# EAGLE library part ARDUINO_MICRO (library Marvelous)
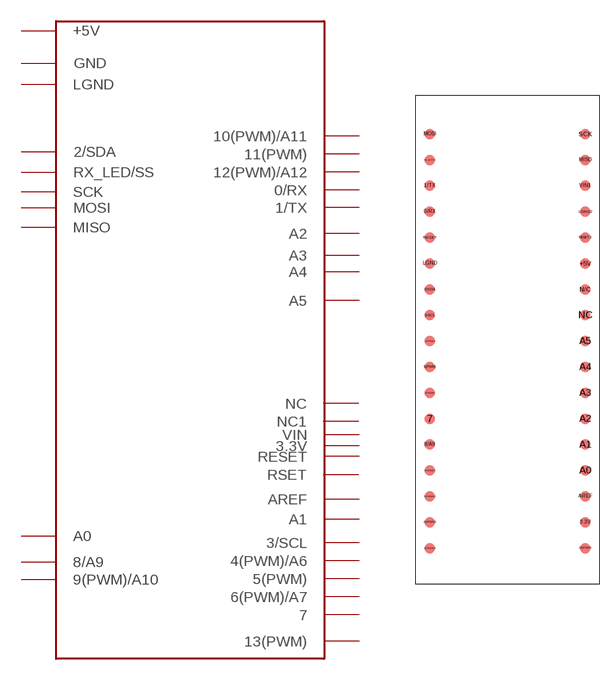
[diagram p0: symbol with the pads of ARDUINO_MICRO; footprint ARDUINO_MICRO]

Designator prefix -

## ARDUINO_MICRO  [ARDUINO_MICRO]
0/RX  0/RX  in
1/TX  1/TX  out
2/SDA  2/SDA
3.3V  3.3V  pwr
3/SCL  3/SCL
4(PWM)/A6  4(PWM)/A6
5(PWM)  5(PWM)
6(PWM)/A7  6(PWM)/A7
7  7
8/A9  8/A9  out
9(PWM)/A10  9(PWM)/A10  out
10(PWM)/A11  10(PWM)/A11  out
11(PWM)  11(PWM)  out
12(PWM)/A12  12(PWM)/A12  out
13(PWM)  13(PWM)  out
+5V  +5V  pwr
A0  A0  in
A1  A1  in
A2  A2  in
A3  A3  in
A4  A4  in
A5  A5  in
AREF  AREF
LGND  GND
LGND2  LGND
MISO  MISO  in
MOSI  MOSI  out
N/C  NC  nc
NC  NC1  nc
RESET  RESET  in
RESET2  RSET  in
RX_LED/SS  RX_LED/SS  out
SCK  SCK  out
VIN1  VIN  nc

## Footprint ARDUINO_MICRO (pad centres in mm)
smd 1.02 x 1.02: 0/RX -7.62,12.57; 1/TX -7.62,15.11; 2/SDA -7.62,4.95; 3.3V 7.62,-17.91; 3/SCL -7.62,2.41; 4(PWM)/A6 -7.62,-0.13; 5(PWM) -7.62,-2.67; 6(PWM)/A7 -7.62,-5.21; 7 -7.62,-7.75; 8/A9 -7.62,-10.29; 9(PWM)/A10 -7.62,-12.83; 10(PWM)/A11 -7.62,-15.37; 11(PWM) -7.62,-17.91; 12(PWM)/A12 -7.62,-20.45; 13(PWM) 7.62,-20.45; +5V 7.62,7.49; A0 7.62,-12.83; A1 7.62,-10.29; A2 7.62,-7.75; A3 7.62,-5.21; A4 7.62,-2.67; A5 7.62,-0.13; AREF 7.62,-15.37; LGND -7.62,7.49; LGND2 7.62,12.57; MISO 7.62,17.65; MOSI -7.62,20.19; N/C 7.62,4.95; NC 7.62,2.41; RESET -7.62,10.03; RESET2 7.62,10.03; RX_LED/SS -7.62,17.65; SCK 7.62,20.19; VIN1 7.62,15.11